# EAGLE library part FINDER-30.22 (library relay)
SUBMINIATURE DIL-RELAIS FINDER 30.22.9.024.0000 Kontakt max. AC - 125V Distributor: Farnell Bestell Nr.: 1217371 Source: http://www.farnell.com/datasheets/87634.pdf
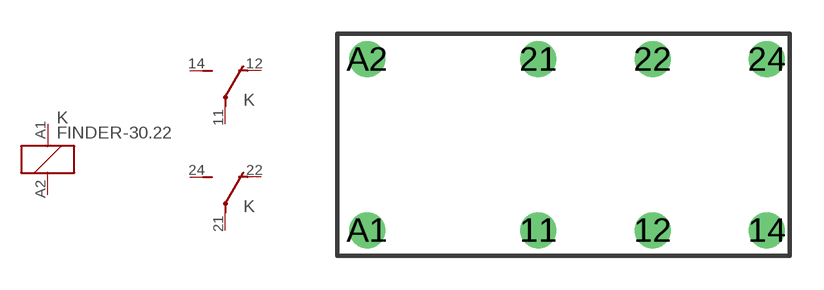
[diagram p146: symbol with the pads of FINDER-30.22; footprint FINDER-30.22]

Designator prefix K; gates K=K -1=U -2=U

## FINDER-30.22 (OC_FARNELL: unknown; OC_NEWARK: unknown)  [FINDER-30.22]
11  -1:P  pas
12  -1:O  pas
14  -1:S  pas
21  -2:P  pas
22  -2:O  pas
24  -2:S  pas
A1  K:1  pas
A2  K:2  pas

## Footprint FINDER-30.22 (pad centres in mm)
30 Series - Subminiature DIL relays 2 A Finder Source: http://www.farnell.com/datasheets/87634.pdf
drill 1 pad 1.6 round: 11 -1.27,-3.81; 12 3.81,-3.81; 14 8.89,-3.81; 21 -1.27,3.81; 22 3.81,3.81; 24 8.89,3.81; A1 -8.89,-3.81; A2 -8.89,3.81